# EAGLE library part 0TG-LIB-V01.5_USB-C-CON-TG_MOD-2295018-2.0 (library TG-Watch02B-rev04)
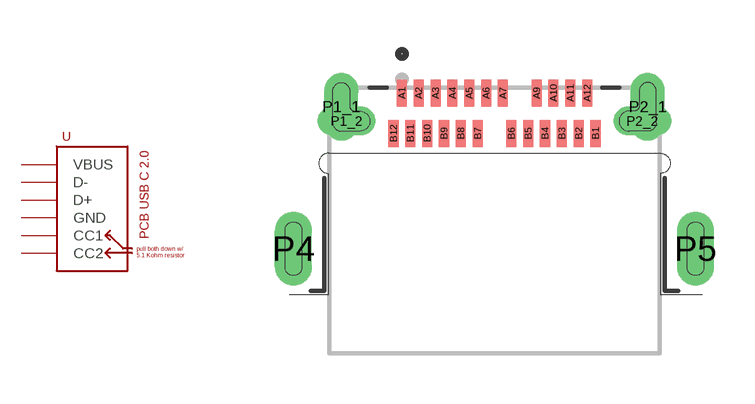
[diagram p6: symbol with the pads of 0TG-LIB-V01.5_TG_RM_TE_2295018-2; footprint 0TG-LIB-V01.5_TG_RM_TE_2295018-2]

Designator prefix -

## 0TG-LIB-V01.5_USB-C-CON-TG_MOD-2295018-2.0  [0TG-LIB-V01.5_TG_RM_TE_2295018-2]
A1  GND
A4  VBUS
A5  CC1
A6  D+
A7  D-
A9  VBUS
A12  GND
B1  GND
B4  VBUS
B5  CC2
B6  D+
B7  D-
B9  VBUS
B12  GND
P1_1  GND
P1_2  GND
P2_1  GND
P2_2  GND
P4  GND
P5  GND

## Footprint 0TG-LIB-V01.5_TG_RM_TE_2295018-2 (pad centres in mm)
smd 0.3 x 0.8: A1 -2.75,4.63; A2 -2.25,4.63; A3 -1.75,4.63; A4 -1.25,4.63; A5 -0.75,4.63; A6 -0.25,4.63; A7 0.25,4.63; A9 1.25,4.63; A10 1.75,4.63; A11 2.25,4.63; A12 2.75,4.63; B1 3,3.43; B2 2.5,3.43; B3 2,3.43; B4 1.5,3.43; B5 1,3.43; B6 0.5,3.43; B7 -0.5,3.43; B8 -1,3.43; B9 -1.5,3.43; B10 -2,3.43; B11 -2.5,3.43; B12 -3,3.43
drill 0.5 long: P1_1 -4.55,4.22; P2_1 4.55,4.22
drill 0.35 long: P1_2 -4.391,3.795; P2_2 4.391,3.795
drill 0.5 pad 1.1 long: P4 -5.97,0; P5 5.97,0